# Altium footprint library LIBRARY_PCB.PcbLib: 8 footprints
Each footprint in its own frame and in the unit in brackets; x right, y up, seen from the top. Pads: shape width x height; smd on the part's side, far side on the other; paste and mask are expansions set on the pad; w line width, h text height; cw(c..) or ccw(c..) is an arc to the next point about the centre after c.
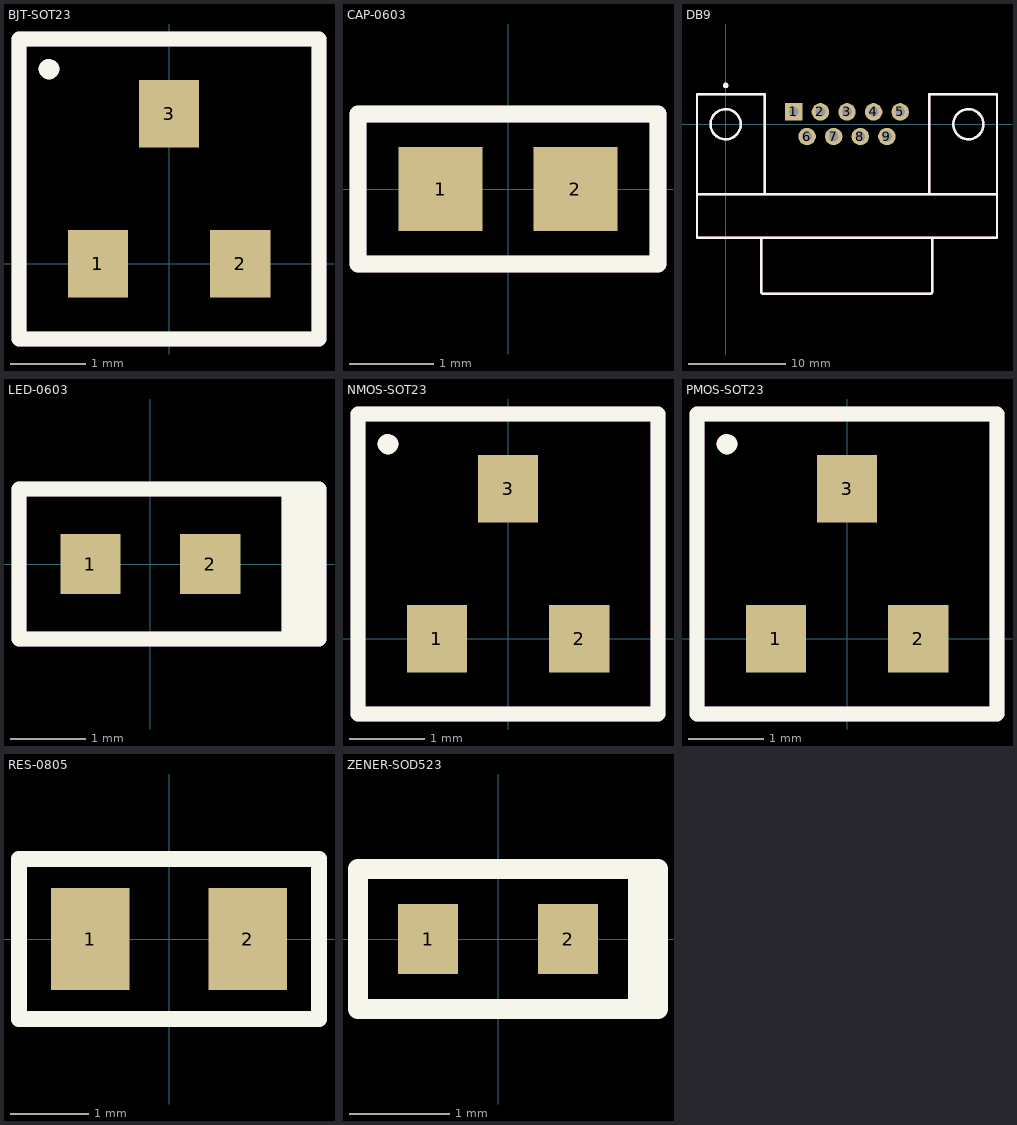
[diagram p0: the footprints below, top view; thin cyan lines are the x and y axes]

## BJT-SOT23 [mm]
pads (3):
  rect 0.8x0.9 smd: 1(-0.95,0) 2(0.95,0) 3(0,2)
Top Overlay:
  lines w0.2: -2,-1 2,-1 2,3 -2,3 -2,-1
  lines w0.254: -1.607,2.607 ccw(c-1.6,2.6) -1.59,2.6
Comp Outline:
  lines w0.2: -2,-1 -2,3 2,3 2,-1 -2,-1
  lines w0.254: -1.607,2.607 ccw(c-1.6,2.6) -1.59,2.6
  text "'.Designator'" at -1.3,0.8 h0.65
3D body "BJT-SOT23.step": height 1.12, standoff 0, extent -1.524,-0.321 1.524,2.321

## CAP-0603 [mm]
pads (2):
  rect 1x1 smd: 1(-0.8,0) 2(0.8,0)
Top Overlay:
  lines w0.2: -1.778,-0.889 -1.778,0.889 1.778,0.889 1.778,-0.889 -1.778,-0.889
Comp Outline:
  lines w0.2: -1.778,-0.889 1.778,-0.889 1.778,0.889 -1.778,0.889 -1.778,-0.889
  text "'.Designator'" at -1.27,-0.127 h0.65
3D body "CAP-0603.step": height 0.94, standoff -0.01, extent -0.875,-0.475 0.875,0.475

## DB9 [mm]
pads (9):
  rect 1.8x1.8 hole 1: 1(7.02,1.275)
  round 1.8 hole 1: 2(9.76,1.275) 3(12.5,1.275) 4(15.24,1.275) 5(17.98,1.275) 6(8.39,-1.265) 7(11.13,-1.265) 8(13.87,-1.265) 9(16.61,-1.265)
Top Overlay:
  circle w0.29: c0,4 r0.141
  circle w0.254: c0,0 r1.55
  circle w0.254: c25,0 r1.55
  circle w0.29: c0,4 r0.141
  lines w0.254: -2.95,-7.2 27.95,-7.2 ; 3.65,-11.8 3.65,-17.2 ccw(c3.933,-17.2) 3.933,-17.483 21.017,-17.483 ccw(c21.017,-17.2) 21.3,-17.2 21.3,-11.775 ; 4.05,-7.2 4.05,3.1 -2.95,3.1 -2.95,-11.7 27.95,-11.7 27.95,3.1 20.95,3.1 20.95,-7.2
Comp Outline:
  circle w0.254: c25,0 r1.55
  circle w0.254: c0,0 r1.55
  circle w0.29: c0,4 r0.141
  lines w0.254: -2.95,-7.2 27.95,-7.2 ; 3.65,-11.8 3.65,-17.2 ccw(c3.933,-17.2) 3.933,-17.483 21.017,-17.483 ccw(c21.017,-17.2) 21.3,-17.2 21.3,-11.775 ; 4.05,-7.2 4.05,3.1 -2.95,3.1 -2.95,-11.7 27.95,-11.7 27.95,3.1 20.95,3.1 20.95,-7.2
  text "'.Designator'" at -1.57,-9.827 h0.65
3D body "DB9-M.stp": height 12.91, standoff -3.89, extent -2.925,-17.625 27.975,3.175

## LED-0603 [mm]
pads (2):
  rect 0.8x0.8 smd: 1(-0.8,0) 2(0.8,0)
Top Overlay:
  rectangle: 1.75,-1 2.25,1
  lines w0.2: -1.75,-1 -1.75,1 2.25,1 2.25,-1 -1.75,-1
Comp Outline:
  rectangle: 1.75,-1 2.25,1
  lines w0.2: -1.75,-1 2.25,-1 2.25,1 -1.75,1 -1.75,-1
  text "'.Designator'" at -1.17,-0.127 h0.65
3D body "LED-0603.stp": height 0.73, standoff 0.01, extent -0.813,-0.394 0.813,0.394

## NMOS-SOT23 [mm]
pads (3):
  rect 0.8x0.9 smd: 1(-0.95,0) 2(0.95,0) 3(0,2)
Top Overlay:
  lines w0.2: -2,-1 -2,3 2,3 2,-1 -2,-1
  lines w0.254: -1.607,2.607 ccw(c-1.6,2.6) -1.59,2.6
Comp Outline:
  lines w0.2: -2,-1 2,-1 2,3 -2,3 -2,-1
  lines w0.254: -1.607,2.607 ccw(c-1.6,2.6) -1.59,2.6
  text "'.Designator'" at -1.3,0.8 h0.65
3D body "NMOS-SOT23.step": height 1.12, standoff 0, extent -1.524,-0.321 1.524,2.321

## PMOS-SOT23 [mm]
pads (3):
  rect 0.8x0.9 smd: 1(-0.95,0) 2(0.95,0) 3(0,2)
Top Overlay:
  lines w0.2: -2,-1 -2,3 2,3 2,-1 -2,-1
  lines w0.254: -1.607,2.607 ccw(c-1.6,2.6) -1.59,2.6
Comp Outline:
  lines w0.2: -2,-1 2,-1 2,3 -2,3 -2,-1
  lines w0.254: -1.607,2.607 ccw(c-1.6,2.6) -1.59,2.6
  text "'.Designator'" at -1.3,0.8 h0.65
3D body "PMOS-SOT23.step": height 1.12, standoff 0, extent -1.524,-0.321 1.524,2.321

## RES-0805 [mm]
pads (2):
  rect 1x1.3 smd: 1(-1,0) 2(1,0)
Top Overlay:
  lines w0.2: -1.905,-1.016 -1.905,1.016 1.905,1.016 1.905,-1.016 -1.905,-1.016
Comp Outline:
  lines w0.2: -1.905,-1.016 1.905,-1.016 1.905,1.016 -1.905,1.016 -1.905,-1.016
  text "'.Designator'" at -1.4,-0.1 h0.65
3D body "RES-0805_stp.stp": height 0.51, standoff 0.01, extent -1,-0.615 1,0.635

## ZENER-SOD523 [mm]
pads (2):
  rect 0.6x0.7 smd: 1(-0.7,0) 2(0.7,0)
Top Overlay:
  rectangle: 1.3,-0.7 1.6,0.7
  lines w0.2: -1.4,-0.7 1.6,-0.7 1.6,0.7 -1.4,0.7 -1.4,-0.7
Comp Outline:
  rectangle: 1.3,-0.7 1.6,0.7
  lines w0.2: -1.4,-0.7 -1.4,0.7 1.6,0.7 1.6,-0.7 -1.4,-0.7
  text "'.Designator'" at -0.9,-0.2 h0.65
3D body "ZENER-SOD523.step": height 0.82, standoff 0, extent -0.85,-0.45 0.85,0.45